# Altium schematic symbol library LiPoKiller.SchLib: 20 symbols
Pins are listed as number, name and electrical type; pins without a type are passive.

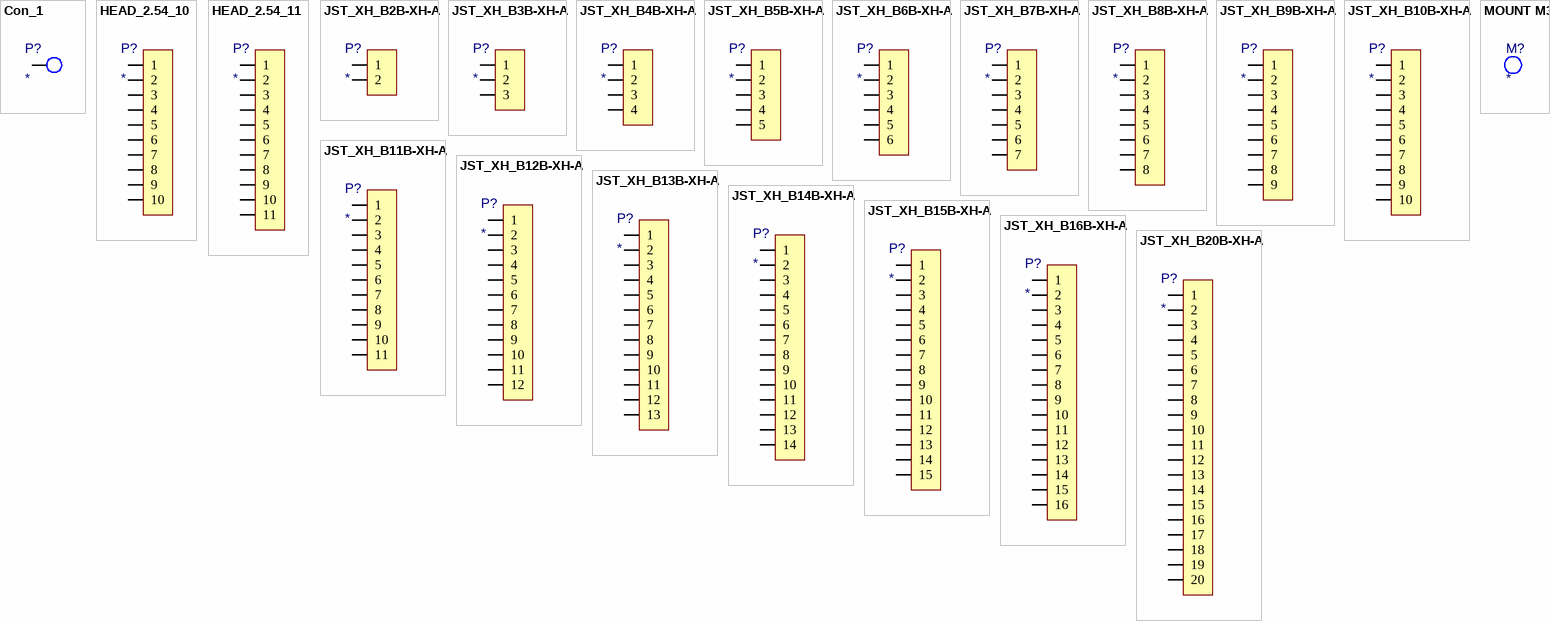
[diagram p0: symbols Con_1 to MOUNT M3]

## Con_1
designator P?
footprint Con_1_2MM_4MM (1 Pin, 2mm Drill, 4mm Pad)
pins: 1

## HEAD_2.54_10
designator P?
footprint CON_HEAD_2.54_10 (Pin header 2.54mm grid, 10 pins)
pins: 1, 2, 3, 4, 5, 6, 7, 8, 9, 10

## HEAD_2.54_11
designator P?
footprint CON_HEAD_2.54_11 (Pin header 2.54mm grid, 11 pins)
pins: 1, 2, 3, 4, 5, 6, 7, 8, 9, 10, 11

## JST_XH_B2B-XH-A
designator P?
footprint CON_JST_XH_B2B-XH-A (JST XH 2 Pin)
pins: 1, 2

## JST_XH_B3B-XH-A
designator P?
footprint CON_JST_XH_B3B-XH-A (JST XH 3 Pin)
pins: 1, 2, 3

## JST_XH_B4B-XH-A
designator P?
footprint CON_JST_XH_B4B-XH-A (JST XH 4 Pin)
pins: 1, 2, 3, 4

## JST_XH_B5B-XH-A
designator P?
footprint CON_JST_XH_B5B-XH-A (JST XH 5 Pin)
pins: 1, 2, 3, 4, 5

## JST_XH_B6B-XH-A
designator P?
footprint CON_JST_XH_B6B-XH-A (JST XH 6 Pin)
pins: 1, 2, 3, 4, 5, 6

## JST_XH_B7B-XH-A
designator P?
footprint CON_JST_XH_B7B-XH-A (JST XH 7 Pin)
pins: 1, 2, 3, 4, 5, 6, 7

## JST_XH_B8B-XH-A
designator P?
footprint CON_JST_XH_B8B-XH-A (JST XH 8 Pin)
pins: 1, 2, 3, 4, 5, 6, 7, 8

## JST_XH_B9B-XH-A
designator P?
footprint CON_JST_XH_B9B-XH-A (JST XH 9 Pin)
pins: 1, 2, 3, 4, 5, 6, 7, 8, 9

## JST_XH_B10B-XH-A
designator P?
footprint CON_JST_XH_B10B-XH-A (JST XH 10 Pin)
pins: 1, 2, 3, 4, 5, 6, 7, 8, 9, 10

## JST_XH_B11B-XH-A
designator P?
footprint CON_JST_XH_B11B-XH-A (JST XH 11 Pin)
pins: 1, 2, 3, 4, 5, 6, 7, 8, 9, 10, 11

## JST_XH_B12B-XH-A
designator P?
footprint CON_JST_XH_B12B-XH-A (JST XH 12 Pin)
pins: 1, 2, 3, 4, 5, 6, 7, 8, 9, 10, 11, 12

## JST_XH_B13B-XH-A
designator P?
footprint CON_JST_XH_B13B-XH-A (JST XH 13 Pin)
pins: 1, 2, 3, 4, 5, 6, 7, 8, 9, 10, 11, 12, 13

## JST_XH_B14B-XH-A
designator P?
footprint CON_JST_XH_B14B-XH-A (JST XH 14 Pin)
pins: 1, 2, 3, 4, 5, 6, 7, 8, 9, 10, 11, 12, 13, 14

## JST_XH_B15B-XH-A
designator P?
footprint CON_JST_XH_B15B-XH-A (JST XH 15 Pin)
pins: 1, 2, 3, 4, 5, 6, 7, 8, 9, 10, 11, 12, 13, 14, 15

## JST_XH_B16B-XH-A
designator P?
footprint CON_JST_XH_B16B-XH-A (JST XH 16 Pin)
pins: 1, 2, 3, 4, 5, 6, 7, 8, 9, 10, 11, 12, 13, 14, 15, 16

## JST_XH_B20B-XH-A
designator P?
footprint CON_JST_XH_B20B-XH-A (JST XH 20 Pin)
pins: 1, 2, 3, 4, 5, 6, 7, 8, 9, 10, 11, 12, 13, 14, 15, 16, 17, 18, 19, 20

## MOUNT M3
designator M?
Mounting hole M3
footprint MOUNT_M3 (Mounting hole M3)